# Altium footprint library RFID  Board PCB.PcbLib: 57 footprints (part 1 of 4)
Each footprint in its own frame and in the unit in brackets; x right, y up, seen from the top. Pads: shape width x height; smd on the part's side, far side on the other; paste and mask are expansions set on the pad; w line width, h text height; cw(c..) or ccw(c..) is an arc to the next point about the centre after c.
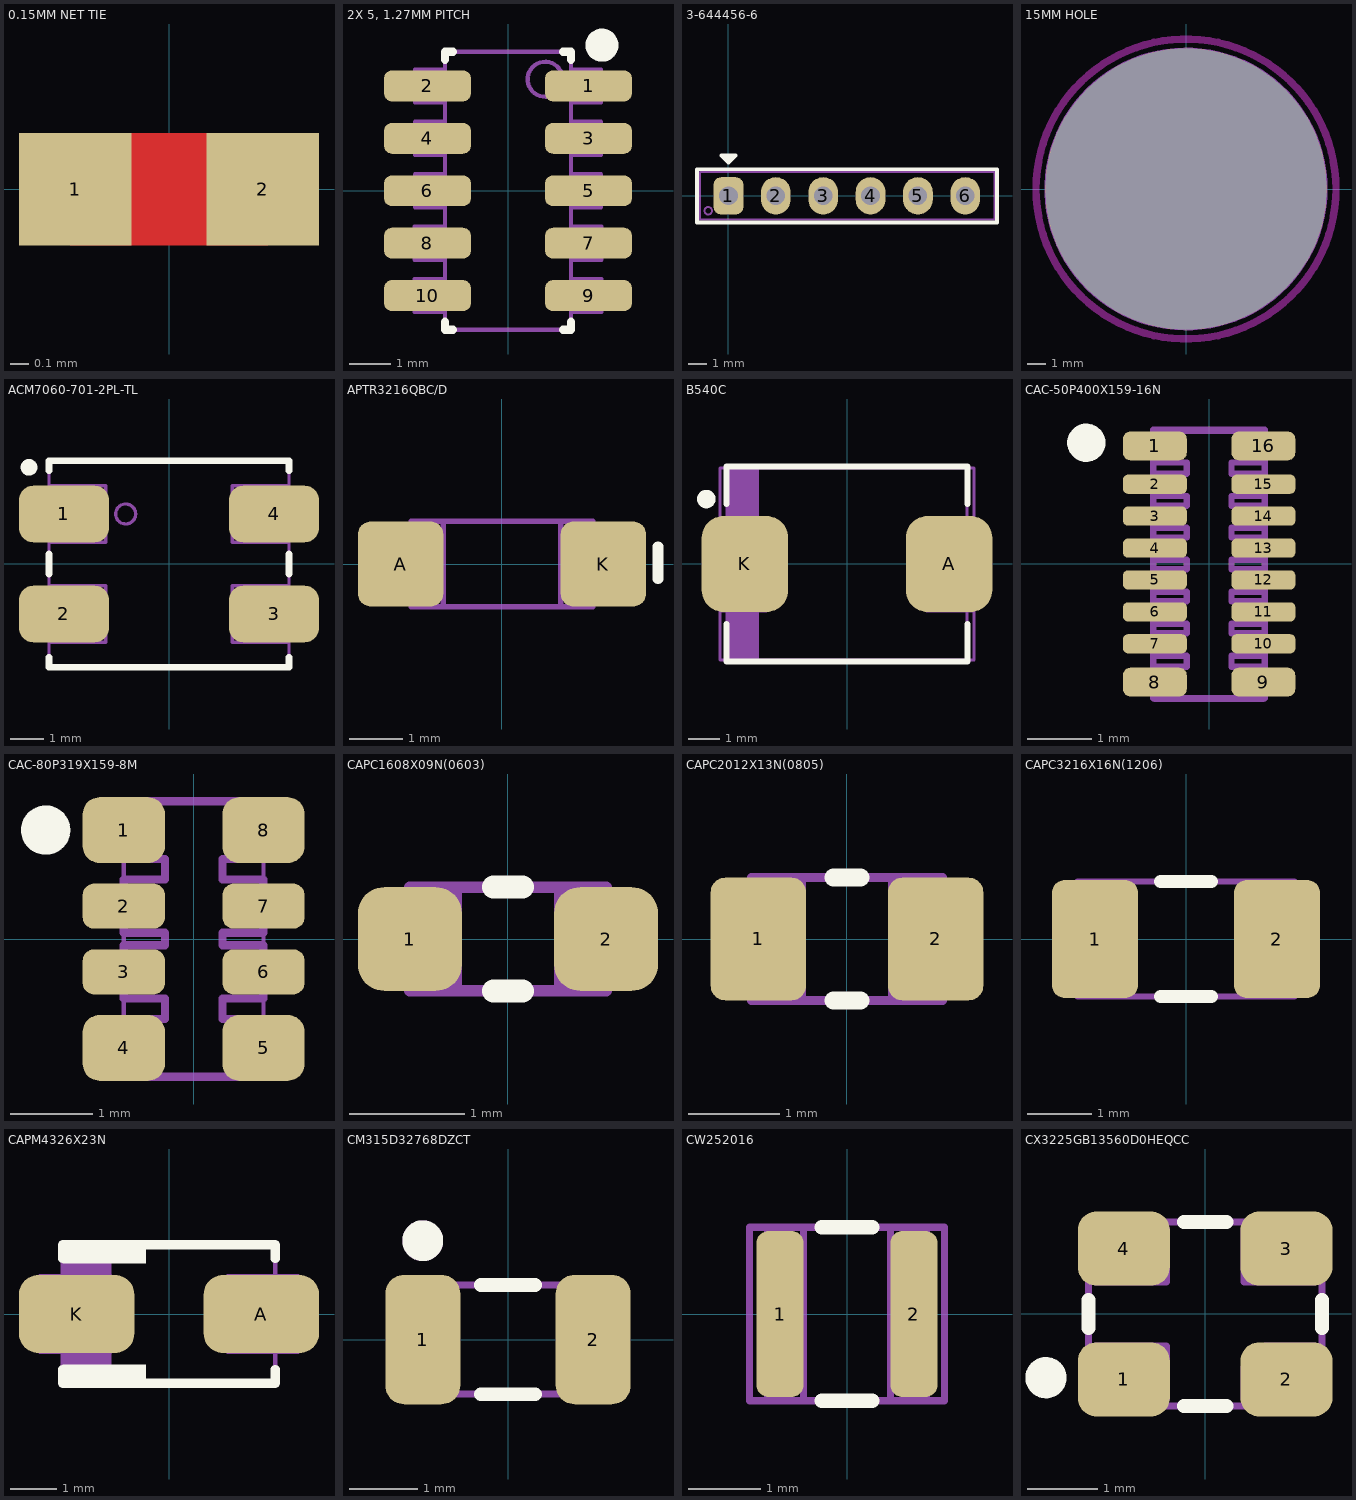
[diagram p0: the footprints below, top view; thin cyan lines are the x and y axes]

## 0.15MM NET TIE [mm] "0.15mm Net Tie"
pads (2):
  rect 0.6x0.6 smd paste-1 mask-1: 1(-0.5,0) 2(0.5,0)
Top Layer:
  lines w0.6: -0.5,0 0.5,0

## 2X 5, 1.27MM PITCH [mm] "2x5, 1.27mm pitch header"
height 4.5
pads (10):
  rrect50% 2.1x0.75 smd: 1(1.95,2.54) 2(-1.95,2.54) 3(1.95,1.27) 4(-1.95,1.27) 5(1.95,0) 6(-1.95,0) 7(1.95,-1.27) 8(-1.95,-1.27) 9(1.95,-2.54) 10(-1.95,-2.54)
Top Overlay:
  circle w0.5: c2.275,3.525 r0.15
  lines w0.2: -1.525,-3.17 -1.525,-3.365 -1.33,-3.365 ; -1.525,3.17 -1.525,3.365 -1.33,3.365 ; 1.33,-3.365 1.525,-3.365 1.525,-3.17 ; 1.33,3.365 1.525,3.365 1.525,3.17
Mechanical 13:
  circle w0.1: c0.9,2.7 r0.424
  lines w0.1: -1.525,-3.365 1.525,-3.365 1.525,3.365 -1.525,3.365 -1.525,-3.365
  text ".Designator" at 0.15,-2.575 h1
Mechanical 15:
  lines w0.1: -1.56,-2.94 -2.265,-2.94 -2.265,-2.14 -1.535,-2.14 ; -1.55,-0.4 -2.255,-0.4 -2.255,0.4 -1.525,0.4 ; -1.54,-1.67 -2.265,-1.67 -2.265,-0.87 -1.54,-0.87 ; -1.54,2.14 -2.255,2.14 -2.255,2.94 -1.535,2.94 ; -1.53,0.87 -2.255,0.87 -2.255,1.67 -1.53,1.67 ; 1.525,0.4 2.255,0.4 2.255,-0.4 1.55,-0.4 ; 1.53,0.87 2.255,0.87 2.255,1.67 1.53,1.67 ; 1.535,-2.14 2.265,-2.14 2.265,-2.94 1.56,-2.94 ; 1.535,2.94 2.255,2.94 2.255,2.14 1.54,2.14 ; 1.54,-1.67 2.265,-1.67 2.265,-0.87 1.54,-0.87 ; -1.525,-3.365 1.525,-3.365 1.525,3.365 -1.525,3.365 -1.525,-3.365
3D body: height 4.5, standoff 0, extent -1.525,-3.365 1.525,3.365

## 3-644456-6 [mm] "6Pos 100Mil Pitch Header"
height 8.5
pads (6):
  rrect50% 1.6x2 hole 1: 1(0,0)
  oval 1.6x2 hole 1: 2(2.54,0) 3(5.08,0) 4(7.62,0) 5(10.16,0) 6(12.7,0)
Top Overlay:
  region: -0.381,2.159 0.381,2.159 0,1.778
  lines w0.2: -1.685,-1.425 -1.685,1.425 14.4,1.425 14.4,-1.425 -1.685,-1.425 ; -0.381,2.159 0,1.778 0.381,2.159 -0.381,2.159
Mechanical 13:
  circle w0.1: c-1.085,-0.8 r0.202
  lines w0.1: -1.52,-1.268 14.275,-1.268 14.275,1.272 -1.52,1.272 -1.52,-1.268
  text ".Designator" at 0.415,-0.5 h1.2
Mechanical 15:
  lines w0.1: -1.52,-1.27 14.26,-1.27 14.26,1.27 -1.52,1.27 -1.52,-1.27
3D body "m20-9770346_asm.stp": height 8.34, standoff -3.14, extent -1.27,-1.27 6.35,1.27
3D body "m20-9770346_asm.stp": height 8.34, standoff -3.14, extent 6.35,-1.265 13.97,1.275

## 15MM HOLE [mm] "15mm Hole"
pads (1):
  round 15 hole 15 unplated paste-3 mask-3: ""(0,0)
Keep-Out Layer:
  circle w0.4: c0,0 r8
Mechanical 13:
  circle w0.1: c0,0 r7.5

## ACM7060-701-2PL-TL [mm] "Common Mode Choke, L7 W6 H3.5"
height 3.5
pads (4):
  rrect50% 2.7x1.7 smd: 1(-3.15,1.5) 2(-3.15,-1.5) 3(3.15,-1.5) 4(3.15,1.5)
Top Overlay:
  circle w0.3: c-4.2,2.9 r0.1
  lines w0.1: -3.6,-3.1 3.6,-3.1 -3.6,-3.1 ; -3.6,3.1 3.6,3.1 -3.6,3.1
  lines w0.2: -3.6,-2.8 -3.6,-3.1 3.6,-3.1 3.6,-2.8 ; -3.6,-0.3 -3.6,0.3 ; -3.6,2.8 -3.6,3.1 3.6,3.1 3.6,2.8 ; 3.6,-0.3 3.6,0.3
Mechanical 13:
  lines w0.1: -3.6,-3.1 3.6,-3.1 3.6,3.1 -3.6,3.1 -3.6,-3.1
  text ".Designator" at -2.7,-0.7 h1.5
Mechanical 15:
  circle w0.1: c-1.3,1.5 r0.3
  lines w0.1: -3.6,-2.35 -1.9,-2.35 -1.9,-0.65 -3.6,-0.65 ; -3.6,0.65 -1.9,0.65 -1.9,2.35 -3.6,2.35 ; 3.6,-2.35 1.9,-2.35 1.9,-0.65 3.6,-0.65 ; 3.6,0.65 1.9,0.65 1.9,2.35 3.6,2.35 ; -3.6,-3.1 3.6,-3.1 3.6,3.1 -3.6,3.1 -3.6,-3.1
3D body: height 3.5, standoff 0, extent -3.6,-3.1 3.6,3.1

## APTR3216QBC/D [mm] "Chip Capacitor, 2-Leads, Body 3.2x1.6mm, H1.6mm, IPC Medium Density"
height 1.8
pads (2):
  rrect30% 1.6x1.6 smd: A(-1.9,0) K(1.9,0)
Top Overlay:
  lines w0.2: 2.925,-0.275 2.925,0.325
Mechanical 13:
  lines w0.1: -1.7,-0.8 -1.7,0.8 1.7,0.8 1.7,-0.8 -1.7,-0.8
  text ".Designator" at -1.45,-0.4 h0.8
Mechanical 15:
  lines w0.1: -1.1,-0.775 -1.1,0.8 ; 1.1,-0.775 1.1,0.8 ; -1.6,-0.8 1.6,-0.8 1.6,0.8 -1.6,0.8 -1.6,-0.8
3D body "APTR3216.STEP": height 0.26, standoff -0.79, extent -1.6,-0.8 1.6,0.8

## B540C [mm] "Molded Diode, 2-Leads, Body 7.18x5.90mm, IPC Medium Density"
height 2.5
pads (2):
  rrect50% 2.8x3.1 smd: A(3.3,0) K(-3.3,0)
Top Overlay:
  circle w0.3: c-4.55,2.1 r0.15
  lines w0.2: -3.9,-1.95 -3.9,-3.15 3.9,-3.15 3.9,-1.95 ; -3.9,1.95 -3.9,3.15 3.9,3.15 3.9,1.95
Mechanical 13:
  rectangle: -3.885,-3.11 -2.84,3.11
  lines w0.1: -3.885,-3.11 -3.885,3.11 3.885,3.11 3.885,-3.11 -3.885,-3.11
  text ".Designator" at -1.7,-0.7 h1.5
Mechanical 15:
  lines w0.1: -4.105,-3.11 4.095,-3.11 4.1,-3.105 4.1,3.105 4.105,3.11 -4.105,3.11 -4.105,-3.11 ; -4.1,-1.525 -4.1,1.475 -2.6,1.475 -2.6,-1.525 -4.1,-1.525 ; 2.575,-1.525 2.575,1.475 4.1,1.475 4.1,-1.525 2.575,-1.525
3D body "B530C.step": height 2.5, standoff 0, extent -4.105,-3.11 4.105,3.11

## CAC-50P400X159-16N [mm] "Chip Array, ConvexS, 16-Leads, Pitch 0.50mm,  Body 4.00x1.60mm,  IPC Medium Density"
height 0.55
pads (16):
  rrect50% 1x0.45 smd: 1(-0.85,1.85) 8(-0.85,-1.85) 9(0.85,-1.85) 16(0.85,1.85)
  rrect50% 1x0.3 smd: 2(-0.85,1.25) 3(-0.85,0.75) 4(-0.85,0.25) 5(-0.85,-0.25) 6(-0.85,-0.75) 7(-0.85,-1.25) 10(0.85,-1.25) 11(0.85,-0.75) 12(0.85,-0.25) 13(0.85,0.25) 14(0.85,0.75) 15(0.85,1.25)
Top Overlay:
  circle w0.3: c-1.925,1.9 r0.15
Mechanical 13:
  lines w0.102: -0.875,-2.1 -0.875,2.1 0.875,2.1 0.875,-2.1 -0.875,-2.1
  text ".Designator" at 0.45,-1.95 h0.9
Mechanical 15:
  lines w0.1: -0.85,-2.11 0.85,-2.11 0.85,-1.61 0.35,-1.61 0.35,-1.435 0.85,-1.435 0.85,-1.085 0.35,-1.085 0.35,-0.935 0.85,-0.935 0.85,-0.585 0.35,-0.585 0.35,-0.435 0.85,-0.435 0.85,-0.085 0.35,-0.085 0.35,0.065 0.85,0.065 0.85,0.415 0.35,0.415 0.35,0.565 0.85,0.565 0.85,0.915 0.35,0.915 0.35,1.065 0.85,1.065 0.85,1.415 0.35,1.415 0.35,1.59 0.85,1.59 0.85,2.09 -0.85,2.09 -0.85,1.59 -0.35,1.59 -0.35,1.415 -0.85,1.415 -0.85,1.065 -0.35,1.065 -0.35,0.915 -0.85,0.915 -0.85,0.565 -0.35,0.565 -0.35,0.415 -0.85,0.415 -0.85,0.065 -0.35,0.065 -0.35,-0.085 -0.85,-0.085 -0.85,-0.435 -0.35,-0.435 -0.35,-0.585 -0.85,-0.585 -0.85,-0.935 -0.35,-0.935 -0.35,-1.085 -0.85,-1.085 -0.85,-1.435 -0.35,-1.435 -0.35,-1.61 -0.85,-1.61 -0.85,-2.11
3D body: height 0.55, standoff 0, extent -0.875,-2.11 0.875,2.09
3D body: height 0.55, standoff 0, extent -0.875,-2.1 0.875,2.1

## CAC-80P319X159-8M [mm] "Chip Array, ConvexS, 8-Leads, Pitch 0.80mm,  Body 3.20x1.60mm,  IPC Low Density"
height 0.7
pads (8):
  rrect50% 1x0.8 smd: 1(-0.85,1.325) 4(-0.85,-1.325) 5(0.85,-1.325) 8(0.85,1.325)
  rrect50% 1x0.55 smd: 2(-0.85,0.4) 3(-0.85,-0.4) 6(0.85,-0.4) 7(0.85,0.4)
Top Overlay:
  circle w0.3: c-1.8,1.325 r0.15
Mechanical 13:
  lines w0.05: -0.85,-1.675 0.85,-1.675 0.85,1.675 -0.85,1.675 -0.85,-1.675
  text ".Designator" at -0.825,-0.5 h0.9
Mechanical 15:
  lines w0.1: -0.85,-1.675 0.85,-1.675 0.85,-0.975 0.35,-0.975 0.35,-0.725 0.85,-0.725 0.85,-0.075 0.35,-0.075 0.35,0.075 0.85,0.075 0.85,0.725 0.35,0.725 0.35,0.975 0.85,0.975 0.85,1.675 -0.85,1.675 -0.85,0.975 -0.35,0.975 -0.35,0.725 -0.85,0.725 -0.85,0.075 -0.35,0.075 -0.35,-0.075 -0.85,-0.075 -0.85,-0.725 -0.35,-0.725 -0.35,-0.975 -0.85,-0.975 -0.85,-1.675
3D body: height 0.7, standoff 0, extent -0.875,-1.675 0.875,1.675

## CAPC1608X09N(0603) [mm] "Chip Capacitor 0603, 2-Leads, Body 1.7x0.8mm, H0.9mm, IPC Medium Density"
height 0.9
pads (2):
  rrect50% 0.9x0.9 smd: 1(-0.85,0) 2(0.85,0)
Top Overlay:
  lines w0.2: -0.127,-0.45 0.127,-0.45 ; -0.127,0.45 0.127,0.45
Mechanical 13:
  lines w0.1: -0.85,-0.45 0.85,-0.45 0.85,0.45 -0.85,0.45 -0.85,-0.45
  text ".Designator" at -0.65,-0.19 h0.35
Mechanical 15:
  lines w0.1: -0.45,-0.45 -0.45,0.45 ; 0.45,-0.45 0.45,0.45 ; -0.85,-0.45 0.85,-0.45 0.85,0.45 -0.85,0.45 -0.85,-0.45
3D body: height 0.9, standoff 0, extent -0.45,-0.45 0.45,0.45
3D body: height 0.9, standoff 0, extent -0.85,-0.45 -0.45,0.45
3D body: height 0.9, standoff 0, extent 0.45,-0.45 0.85,0.45

## CAPC2012X13N(0805) [mm] "Chip Capacitor 0805, 2-Leads, Body 2.0x1.3mm, H1.3mm, IPC Medium Density"
height 1.35
pads (2):
  rrect30% 1.05x1.35 smd: 1(-0.975,0) 2(0.975,0)
Top Overlay:
  lines w0.2: -0.15,-0.675 0.15,-0.675 ; -0.15,0.675 0.15,0.675
Mechanical 13:
  lines w0.1: -1.05,-0.675 1.05,-0.675 1.05,0.675 -1.05,0.675 -1.05,-0.675
  text ".Designator" at -0.825,-0.225 h0.45
Mechanical 15:
  lines w0.1: -0.5,-0.675 -0.5,0.675 ; 0.5,-0.675 0.5,0.675 ; -1.05,-0.675 -1.05,0.675 1.05,0.675 1.05,-0.675 -1.05,-0.675
3D body: height 1.35, standoff 0, extent -1.05,-0.675 -0.5,0.675
3D body: height 1.35, standoff 0, extent -0.5,-0.675 0.5,0.675
3D body: height 1.35, standoff 0, extent 0.5,-0.675 1.05,0.675

## CAPC3216X16N(1206) [mm] "Chip Capacitor, 2-Leads, Body 3.2x1.6mm, H1.6mm, IPC Medium Density"
height 1.8
pads (2):
  rrect30% 1.35x1.85 smd: 1(-1.425,0) 2(1.425,0)
Top Overlay:
  lines w0.2: -0.4,-0.9 0.4,-0.9 ; -0.4,0.9 0.4,0.9
Mechanical 13:
  lines w0.1: -1.7,-0.9 -1.7,0.9 1.7,0.9 1.7,-0.9 -1.7,-0.9
  text ".Designator" at -1.45,-0.4 h0.8
Mechanical 15:
  lines w0.1: -0.9,-0.9 -0.9,0.9 ; 0.9,-0.9 0.9,0.9 ; -1.7,-0.9 -1.7,0.9 1.7,0.9 1.7,-0.9 -1.7,-0.9
3D body: height 1.8, standoff 0, extent -0.9,-0.9 0.9,0.9
3D body: height 1.8, standoff 0, extent -1.7,-0.9 -0.9,0.9
3D body: height 1.8, standoff 0, extent 0.9,-0.9 1.7,0.9

## CAPM4326X23N [mm] "Molded Capacitor, 2-Leads, Body 4.30x2.60mm, IPC Medium Density"
height 2.3
pads (2):
  rrect50% 2.5x1.7 smd: A(2,0) K(-2,0)
Top Overlay:
  region: -2.3,-1.1 -0.5,-1.1 -0.5,-1.5 -2.3,-1.5
  region: -2.3,1.1 -0.5,1.1 -0.5,1.5 -2.3,1.5
  lines w0.2: -2.3,-1.2 -2.3,-1.5 2.3,-1.5 2.3,-1.2 ; -2.3,1.2 -2.3,1.5 2.3,1.5 2.3,1.2
Mechanical 13:
  region: -2.3,1.46 -2.3,-1.46 -1.25,-1.46 -1.25,1.46
  lines w0.1: -2.3,-1.46 -2.3,1.46 2.3,1.46 2.3,-1.46 -2.3,-1.46
  text ".Designator" at -0.85,-0.475 h0.9
Mechanical 15:
  lines w0.1: -2.795,-0.815 -2.795,0.815 -1.275,0.815 -1.275,-0.815 -2.795,-0.815 ; -2.3,-1.46 2.3,-1.46 2.3,1.46 -2.3,1.46 -2.3,-1.46 ; 1.275,-0.815 1.275,0.815 2.795,0.815 2.795,-0.815 1.275,-0.815
3D body: height 1.15, standoff 0, extent 1.275,-0.815 2.795,0.815
3D body: height 1.15, standoff 0, extent -2.795,-0.815 -1.275,0.815
3D body: height 2.3, standoff 0.2, extent -2.3,-1.46 2.3,1.46

## CM315D32768DZCT [mm] "Crystal, 32.768kHz, 3.2x1.5x0.9mm"
height 0.9
pads (2):
  rrect50% 1.1x1.9 smd: 1(-1.25,0) 2(1.25,0)
Top Overlay:
  circle w0.3: c-1.25,1.45 r0.15
  lines w0.2: -0.4,-0.8 0.4,-0.8 ; -0.4,0.8 0.4,0.8
Mechanical 13:
  circle w0.1: c-1.25,1.45 r0.25
  lines w0.1: -1.65,-0.8 1.65,-0.8 1.65,0.8 -1.65,0.8 -1.65,-0.8
  text ".Designator" at -1.275,-0.35 h0.7
Mechanical 15:
  lines w0.1: -1.65,-0.8 -1.65,0.8 1.65,0.8 1.65,-0.8 -1.65,-0.8 ; -1.5,-0.65 -1.2,-0.65 -0.9,-0.35 -0.9,0.65 -1.5,0.65 -1.5,-0.65 ; 0.9,-0.65 0.9,0.65 1.5,0.65 1.5,-0.65 0.9,-0.65
3D body: height 0.9, standoff 0, extent -1.65,-0.8 1.65,0.8

## CW252016 [mm]
height 1.8
pads (2):
  rrect50% 0.65x2.3 smd: 1(-0.925,0) 2(0.925,0)
Top Overlay:
  lines w0.2: -0.35,-1.2 0.35,-1.2 ; -0.35,1.2 0.35,1.2
Mechanical 13:
  lines w0.1: -1.35,-1.2 -1.35,1.2 1.35,1.2 1.35,-1.2 -1.35,-1.2
  text ".Designator" at -1.1,-0.3 h0.6
Mechanical 15:
  lines w0.1: -1.1,-1.2 -1.1,1.2 ; -0.6,-1.2 -0.6,1.2 ; 0.6,-1.2 0.6,1.2 ; 1.1,-1.2 1.1,1.2 ; -1.35,-1.2 -1.35,1.2 1.35,1.2 1.35,-1.2 -1.35,-1.2
3D body: height 1.8, standoff 0.05, extent -1.35,-1.2 1.35,1.2

## CX3225GB13560D0HEQCC [mm]
height 0.9
pads (4):
  rrect50% 1.3x1.05 smd: 1(-1.15,-0.925) 2(1.15,-0.925) 3(1.15,0.925) 4(-1.15,0.925)
Top Overlay:
  circle w0.3: c-2.25,-0.9 r0.141
  lines w0.2: -1.65,-0.2 -1.65,0.2 ; -0.3,-1.3 0.3,-1.3 ; -0.3,1.3 0.3,1.3 ; 1.65,-0.2 1.65,0.2
Mechanical 13:
  circle w0.1: c-1.1,-0.85 r0.3
  lines w0.1: -1.65,-1.1 cw(c-1.65,-1.3) -1.45,-1.3 1.45,-1.3 cw(c1.65,-1.3) 1.65,-1.1 1.65,1.1 cw(c1.65,1.3) 1.45,1.3 -1.45,1.3 cw(c-1.65,1.3) -1.65,1.1 -1.65,-1.1
  text ".Designator" at -1.35,-0.3 h0.75
Mechanical 15:
  lines w0.1: -1.65,-1.1 cw(c-1.65,-1.3) -1.45,-1.3 1.45,-1.3 cw(c1.65,-1.3) 1.65,-1.1 1.65,1.1 cw(c1.65,1.3) 1.45,1.3 -1.45,1.3 cw(c-1.65,1.3) -1.65,1.1 -1.65,-1.1 ; -1.55,-1.2 -0.55,-1.2 -0.55,-0.45 -1.55,-0.45 -1.55,-1.2 ; -1.55,0.45 -1.55,1.2 -0.55,1.2 -0.55,0.45 -1.55,0.45 ; 0.55,-1.2 0.55,-0.75 0.85,-0.45 1.55,-0.45 1.55,-1.2 0.55,-1.2 ; 0.55,0.45 1.55,0.45 1.55,1.2 0.55,1.2 0.55,0.45
3D body: height 0.9, standoff 0, extent -1.65,-1.3 1.65,1.3